# Altium schematic symbol library SN74LVC1G14DCKR.SchLib: 1 symbol
Pins are listed as number, name and electrical type; pins without a type are passive.

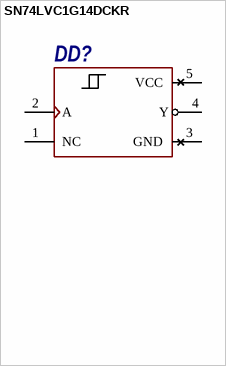
[diagram p0: symbol SN74LVC1G14DCKR]

## SN74LVC1G14DCKR
designator DD?
pins: 1 NC, 2 A, 3 GND (power), 4 Y, 5 VCC (power)